# Altium schematic symbol library SBH11-PBPC-D05-ST-BK.SchLib: 1 symbol
Pins are listed as number, name and electrical type; pins without a type are passive.

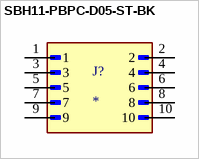
[diagram p0: symbol SBH11-PBPC-D05-ST-BK]

## SBH11-PBPC-D05-ST-BK
designator J?
10 Position Total Dual Row 2.54 mm Pitch Straight Male Shrouded Box Header; MF: Sullins Connector; MP: SBH11-PBPC-D05-ST-BK; SnapEDA_Link: https://www.snapeda.com/parts/SBH11-PBPC-D05-ST-BK/Sullins+Connector+Solutions/view-part/?ref=snap; Package: None; Value: *; Check_prices: https://www.snapeda.com/parts/SBH11-PBPC-D05-ST-BK/Sullins+Connector+Solutions/view-part/?ref=eda
footprint SULLINS_SBH11-PBPC-D05-ST-BK
pins: 1, 2, 3, 4, 5, 6, 7, 8, 9, 10